# Altium footprint library 2016-04-10_19-17-58.PcbLib: 5 footprints
Each footprint in its own frame and in the unit in brackets; x right, y up, seen from the top. Pads: shape width x height; smd on the part's side, far side on the other; paste and mask are expansions set on the pad; w line width, h text height; cw(c..) or ccw(c..) is an arc to the next point about the centre after c.
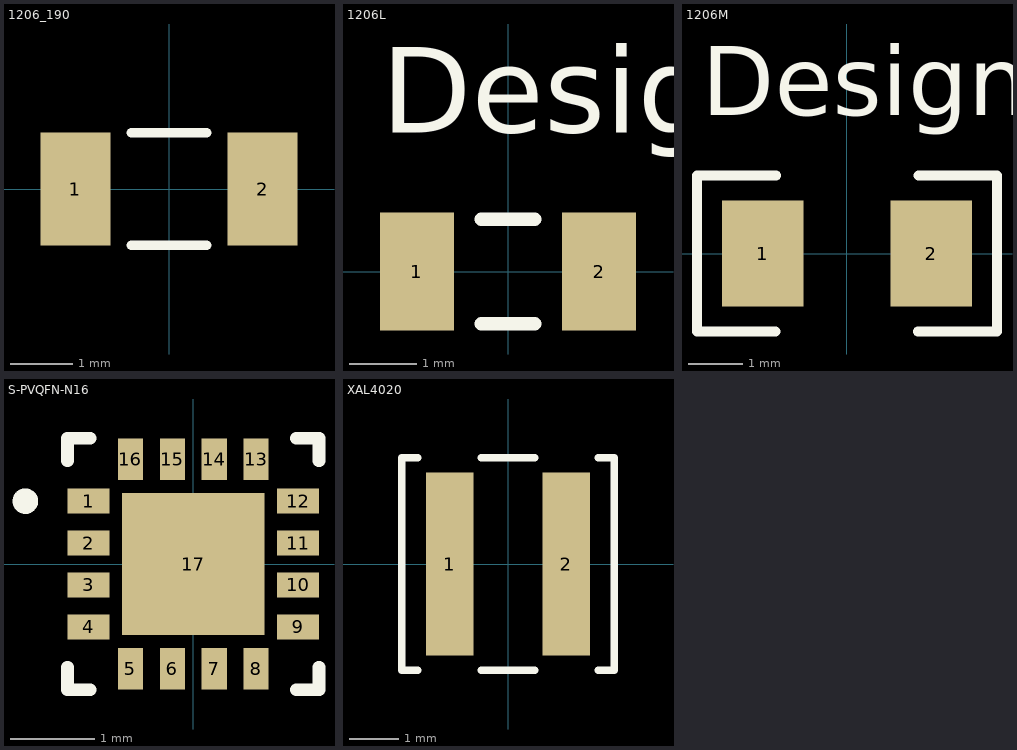
[diagram p0: the footprints below, top view; thin cyan lines are the x and y axes]

## 1206_190 [mil]
pads (2):
  rect 44x71 smd: 1(-59,0) 2(59,0)
Top Overlay:
  lines w6: -23.9,-35.5 23.9,-35.5 ; -23.9,35.5 23.9,35.5

## 1206L [mm]
pads (2):
  rect 1.1x1.75 smd paste+0 mask+0.051: 1(-1.35,0) 2(1.35,0)
Top Overlay:
  lines w0.2: -0.4,-0.775 0.4,-0.775 ; -0.4,0.775 0.4,0.775
  text "Designator9" at -1.88,2.057 h1.27

## 1206M [mm]
pads (2):
  rect 1.5x1.95 smd paste+0 mask+0.051: 1(-1.55,0) 2(1.55,0)
Top Overlay:
  lines w0.178: -2.758,-1.43 -2.753,-1.435 ; -1.313,-1.435 -2.758,-1.435 -2.758,1.435 -1.303,1.435 ; 1.306,-1.435 2.761,-1.435 2.761,1.435 1.316,1.435 ; 2.756,1.435 2.761,1.43
  text "Designator9" at -2.667,2.54 h1.27

## S-PVQFN-N16 [mm]
pads (17):
  rect 0.5x0.3 smd: 1(-1.25,0.75) 2(-1.25,0.25) 3(-1.25,-0.25) 4(-1.25,-0.75) 9(1.25,-0.75) 10(1.25,-0.25) 11(1.25,0.25) 12(1.25,0.75)
  rect 0.3x0.5 smd: 5(-0.75,-1.25) 6(-0.25,-1.25) 7(0.25,-1.25) 8(0.75,-1.25) 13(0.75,1.25) 14(0.25,1.25) 15(-0.25,1.25) 16(-0.75,1.25)
  rect 1.7x1.7 smd paste-0.837: 17(0,0)
Top Overlay:
  circle w0.152: c-2.004,0.75 r0.076
  lines w0.152: -1.5,-1.233 -1.5,-1.5 -1.233,-1.5 ; -1.5,1.233 -1.5,1.5 -1.233,1.5 ; 1.233,-1.5 1.5,-1.5 1.5,-1.233 ; 1.233,1.5 1.5,1.5 1.5,1.233
Top Paste:
  region: 0.85,0.85 -0.85,0.85 -0.85,-0.85 0.85,-0.85

## XAL4020 [mil]
pads (2):
  rect 38x146 smd: 1(-46.5,0) 2(46.5,0)
Top Overlay:
  lines w6: -71.77,-84.5 -84.5,-84.5 -84.5,84.5 -71.77,84.5 ; -21.23,-84.5 21.23,-84.5 ; -21.23,84.5 21.23,84.5 ; 71.77,-84.5 84.5,-84.5 84.5,84.5 71.77,84.5